# EAGLE library part RESISTOR_ARRAY_4 (library ERIC)
Resistor Array with 4 isolated resistors
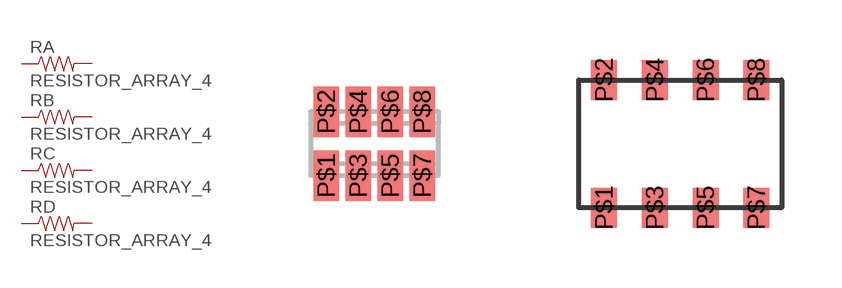
[diagram p18: symbol with the pads of RESISTOR_ARRAY_BOURNES_CAT16-J4; footprints RESISTOR_ARRAY_BOURNES_CAT16-J4, RESISTOR_ARRAY_CTS_744]

Designator prefix R; gates C=RESISTOR B=RESISTOR D=RESISTOR A=RESISTOR

## RESISTOR_ARRAY_4  [RESISTOR_ARRAY_BOURNES_CAT16-J4]
P$1  C:1  pas
P$2  C:2  pas
P$3  B:1  pas
P$4  B:2  pas
P$5  D:1  pas
P$6  D:2  pas
P$7  A:1  pas
P$8  A:2  pas

## RESISTOR_ARRAY_4CTS_744  [RESISTOR_ARRAY_CTS_744]
P$1  A:1  pas
P$2  A:2  pas
P$3  B:1  pas
P$4  B:2  pas
P$5  C:1  pas
P$6  C:2  pas
P$7  D:1  pas
P$8  D:2  pas

## RESISTOR_ARRAY_4CTS_743  [RESISTOR_ARRAY_CTS_743_SERIES]
Pads as for RESISTOR_ARRAY_CTS_744

## RESISTOR_ARRAY_4CTS_742  [RESISTOR_ARRAY_CTS_742_4]
Pads as for RESISTOR_ARRAY_CTS_744

## Footprint RESISTOR_ARRAY_BOURNES_CAT16-J4 (pad centres in mm)
smd 0.635 x 1.27: P$1 -1.2,-0.8; P$2 -1.2,0.8; P$3 -0.4,-0.8; P$4 -0.4,0.8; P$5 0.4,-0.8; P$6 0.4,0.8; P$7 1.2,-0.8; P$8 1.2,0.8

## Footprint RESISTOR_ARRAY_CTS_744 (pad centres in mm)
smd 0.65 x 1: P$1 -1.905,-1.6; P$2 -1.905,1.6; P$3 -0.635,-1.6; P$4 -0.635,1.6; P$5 0.635,-1.6; P$6 0.635,1.6; P$7 1.905,-1.6; P$8 1.905,1.6

## Footprint RESISTOR_ARRAY_CTS_743_SERIES (pad centres in mm)
smd 0.65 x 1: P$1 -1.905,-1; P$2 -1.905,1; P$3 -0.635,-1; P$4 -0.635,1; P$5 0.635,-1; P$6 0.635,1; P$7 1.905,-1; P$8 1.905,1

## Footprint RESISTOR_ARRAY_CTS_742_4 (pad centres in mm)
smd 0.45 x 0.9: P$1 -1.2,-0.85; P$2 -1.2,0.85; P$3 -0.4,-0.85; P$4 -0.4,0.85; P$5 0.4,-0.85; P$6 0.4,0.85; P$7 1.2,-0.85; P$8 1.2,0.85